# EAGLE library part BC118 (library SparkFun-RF)
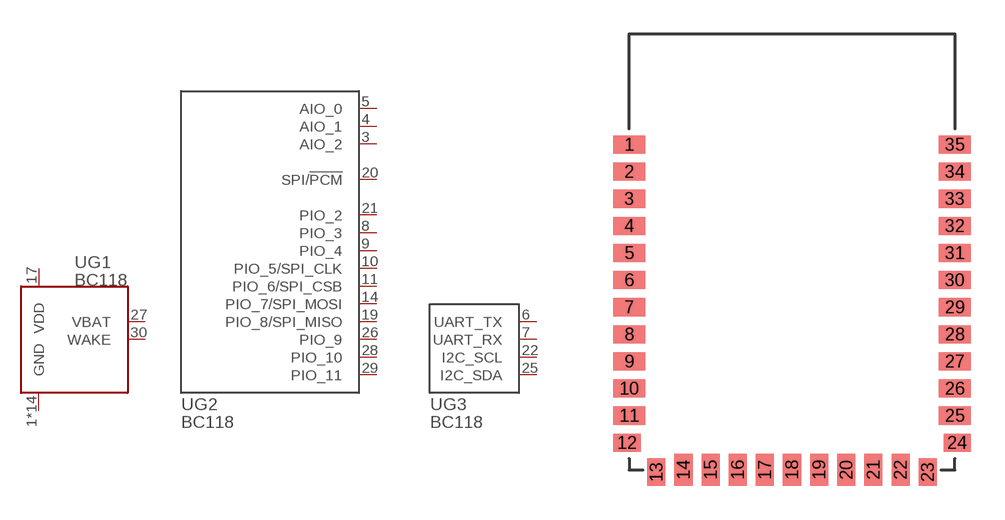
[diagram p64: symbol with the pads of BC118; footprint BC118]

Designator prefix U; gates G1=BC118_POWER G2=BC118_PIO G3=BC118_COMMS

## BC118 (PROD_ID: WRL-12203; VALUE: BC118)  [BC118]
1  G1:GND
2  G1:GND
3  G2:AIO_2
4  G2:AIO_1
5  G2:AIO_0
6  G3:UART_TX
7  G3:UART_RX
8  G2:PIO_3
9  G2:PIO_4
10  G2:PIO_5/SPI_CLK
11  G2:PIO_6/SPI_CSB
12  G1:GND
13  G1:GND
14  G2:PIO_7/SPI_MOSI
15  G1:GND
16  G1:GND
17  G1:VDD
18  G1:GND
19  G2:PIO_8/SPI_MISO
20  G2:SPI/!PCM
21  G2:PIO_2
22  G3:I2C_SCL
23  G1:GND
24  G1:GND
25  G3:I2C_SDA
26  G2:PIO_9
27  G1:VBAT
28  G2:PIO_10
29  G2:PIO_11
30  G1:WAKE
31  G1:GND
32  G1:GND
33  G1:GND
34  G1:GND
35  G1:GND

## Footprint BC118 (pad centres in mm)
smd 1.4 x 0.8: 1 -7.2,4.75; 2 -7.2,3.55; 3 -7.2,2.35; 4 -7.2,1.15; 5 -7.2,-0.05; 6 -7.2,-1.25; 7 -7.2,-2.45; 8 -7.2,-3.65; 9 -7.2,-4.85; 10 -7.2,-6.05; 11 -7.2,-7.25; 25 7.2,-7.25; 26 7.2,-6.05; 27 7.2,-4.85; 28 7.2,-3.65; 29 7.2,-2.45; 30 7.2,-1.25; 31 7.2,-0.05; 32 7.2,1.15; 33 7.2,2.35; 34 7.2,3.55; 35 7.2,4.75
smd 1.2 x 0.8: 12 -7.3,-8.45; 24 7.3,-8.45
smd 0.8 x 1.2: 13 -6,-9.75; 23 6,-9.75
smd 0.8 x 1.4: 14 -4.8,-9.65; 15 -3.6,-9.65; 16 -2.4,-9.65; 17 -1.2,-9.65; 18 0,-9.65; 19 1.2,-9.65; 20 2.4,-9.65; 21 3.6,-9.65; 22 4.8,-9.65